# Altium schematic symbol library switching control unit.SCHLIB: 24 symbols
Pins are listed as number, name and electrical type; pins without a type are passive.

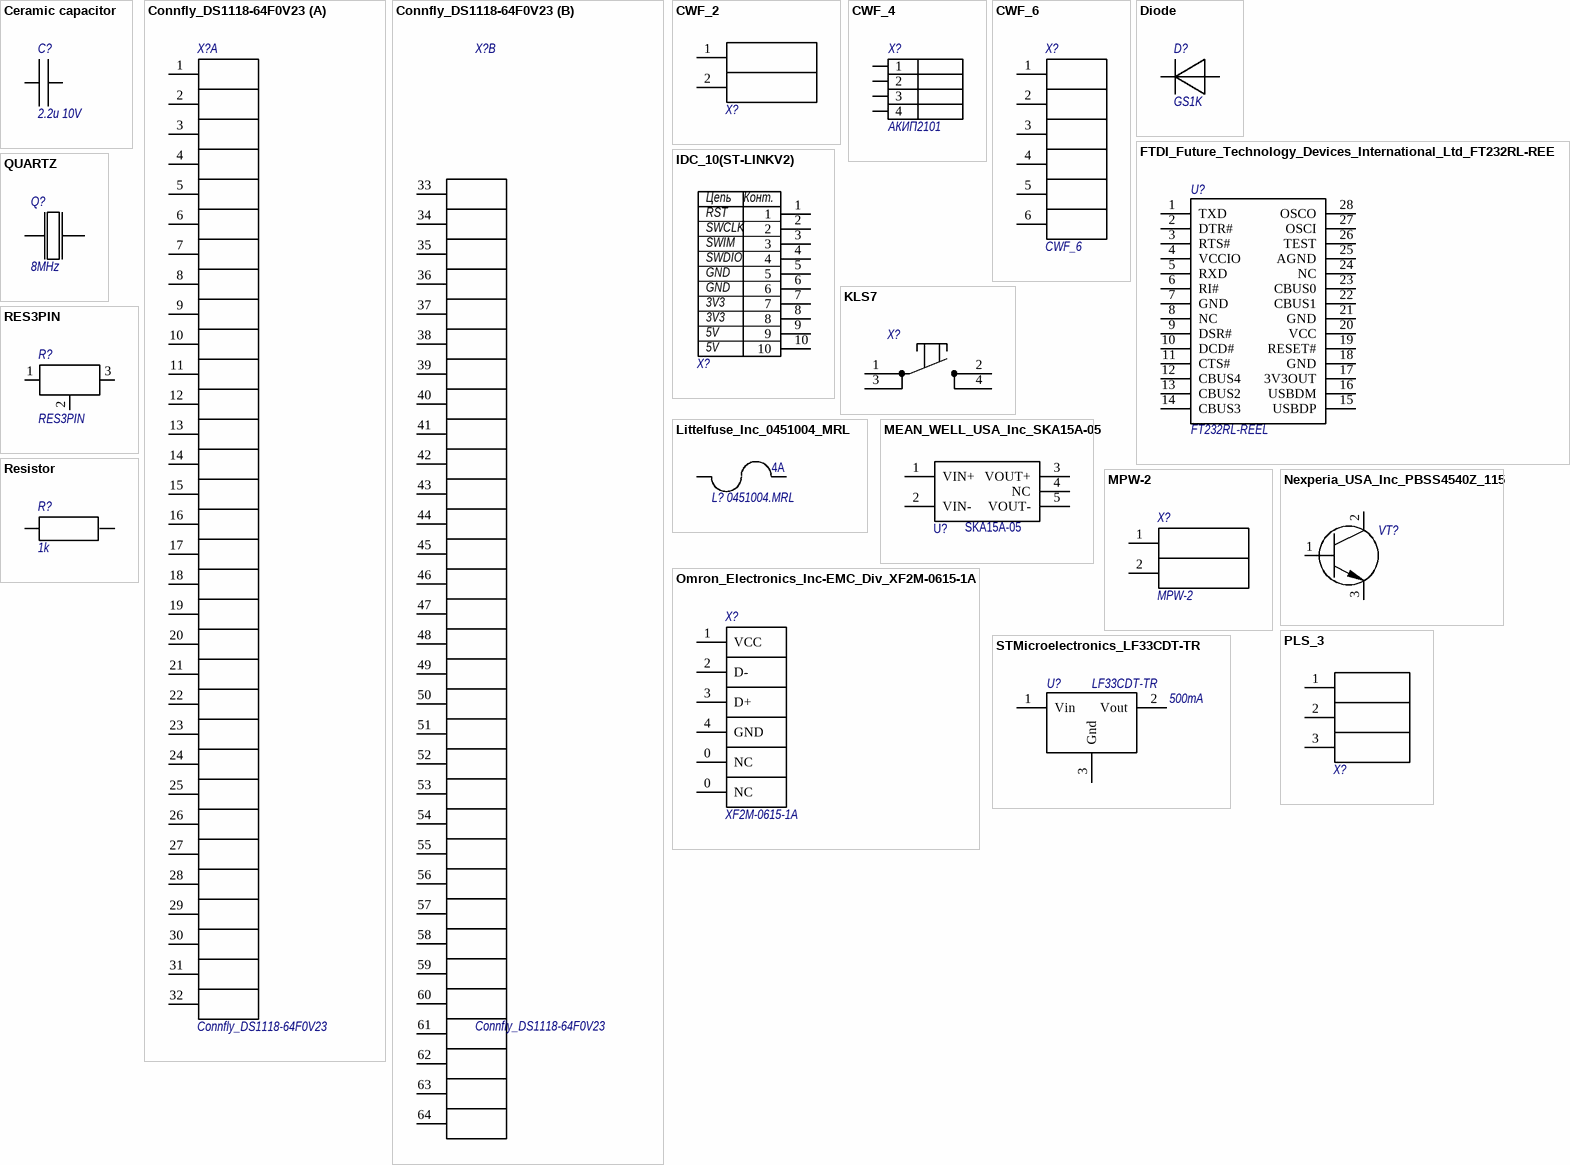
[diagram p0: symbols Ceramic capacitor to STMicroelectronics_LF33CDT-TR]

## Ceramic capacitor
designator C?, comment 2.2u 10V
CAP CER 2.2UF 10V X7R 0805; Part Number: CL21B225KPFNNNE; Manufacturer: Samsung Electro-Mechanics; Identifier: Samsung_Electro-Mechanics_CL21B225KPFNNNE; Tolerance: В±10%; Supplier 1: Digi-key; Supplier Part Number 1: 1276-1188-1-ND; Supplier 2: ChipDip; Supplier Part Number 2: 8884939575; Supplier 3: Terraelectronica; Supplier Part Number 3: 863558; Supplier Link: https://www.terraelectronica.ru/product/863558; Supplier 4: Platan; Supplier 5: Mouser; Supplier 6: Farnell; Supplier 7: Brownbear; Supplier 8: Aliexpress; ComponentLink1Description: Datasheet; ComponentLink1URL: http://www.samsungsem.com/kr/support/product-search/mlcc/__icsFiles/afieldfile/2018/07/24/CL21B225KPFNNNE.pdf; HelpURL: http://www.samsungsem.com/kr/support/product-search/mlcc/__icsFiles/afieldfile/2018/07/24/CL21B225KPFNNNE.pdf; Capacitance: 2.2u; Voltage: 10V; Temperature Coefficient: X7R; Package: 0805
footprint CAPC200X125X60L35N
pins: 1, 2

## Connfly_DS1118-64F0V23
designator X?
footprint Connfly_DS1118-64F0V23
part A pins: 1, 2, 3, 4, 5, 6, 7, 8, 9, 10, 11, 12, 13, 14, 15, 16, 17, 18, 19, 20, 21, 22, 23, 24, 25, 26, 27, 28, 29, 30, 31, 32
part B pins: 33, 34, 35, 36, 37, 38, 39, 40, 41, 42, 43, 44, 45, 46, 47, 48, 49, 50, 51, 52, 53, 54, 55, 56, 57, 58, 59, 60, 61, 62, 63, 64

## CWF_2
designator X?  (value not drawn)
CWF-2 (DS1069-2 M), Р’РёР»РєР° РЅР° РїР»Р°С‚Сѓ 2.50РјРј РїСЂСЏРјР°СЏ Р·Р°РєСЂС‹С‚Р°СЏ; Part Number: DS1069-2MVW6X; Manufacturer: Connfly; Number of Contacts: 2; Pitch: 2.5; Numbers of Rows: 1; Identifier: CWF_2; Supplier 1: Digi-key; Supplier 2: Chipdip; Supplier Part Number 2: 526261177; Supplier 3: Terraelectronica; Supplier 4: Platan; Supplier 5: Mouser; Supplier 6: Farnell; Supplier 7: Brownbear; Supplier 8: Aliexpress; ComponentLink1Description: Datasheet; ComponentLink1URL: https://static.chipdip.ru/lib/413/DOC001413777.pdf; HelpURL: https://static.chipdip.ru/lib/413/DOC001413777.pdf`
footprint CWF_2
pins: 1 VIN, 2 GND

## CWF_4
designator X?, comment АКИП2101
CWF-4 (DS1069-4 M), Р’РёР»РєР° РЅР° РїР»Р°С‚Сѓ 2.50РјРј РїСЂСЏРјР°СЏ Р·Р°РєСЂС‹С‚Р°СЏ; Part Number: DS1069-4MVW6X; Manufacturer: Connfly; Identifier: CWF_4; Number of Contacts: 4; Pitch: 2.5; Numbers of Rows: 1; Supplier 1: Digi-key; Supplier 2: Chipdip; Supplier Part Number 2: 33929; Supplier 3: Terraelectronica; Supplier Link: https://www.chipdip.ru/product/cwf-4; Supplier 4: Platan; Supplier 5: Mouser; Supplier 6: Farnell; Supplier 7: Brownbear; Supplier 8: Aliexpress; ComponentLink1Description: Datasheet; ComponentLink1URL: https://static.chipdip.ru/lib/413/DOC001413777.pdf; HelpURL: https://static.chipdip.ru/lib/413/DOC001413777.pdf`
footprint CWF_4
pins: 1, 2, 3, 4

## CWF_6
designator X?
CWF-6 (DS1069-6 M), Р’РёР»РєР° РЅР° РїР»Р°С‚Сѓ 2.50РјРј РїСЂСЏРјР°СЏ Р·Р°РєСЂС‹С‚Р°СЏ; Part Number: DS1069-6MVW6X; Manufacturer: Connfly; Number of Contacts: 6; Pitch: 2.5; Numbers of Rows: 1; Identifier: CWF_6; Supplier 1: Digi-key; Supplier 2: Chipdip; Supplier Part Number 2: 43794; Supplier 3: Terraelectronica; Supplier 4: Platan; Supplier 5: Mouser; Supplier 6: Farnell; Supplier 7: Brownbear; Supplier 8: Aliexpress; ComponentLink1Description: Datasheet; ComponentLink1URL: https://static.chipdip.ru/lib/276/DOC000276438.pdf; HelpURL: https://static.chipdip.ru/lib/276/DOC000276438.pdf
footprint CWF_6
pins: 1, 2, 3, 4, 5, 6

## Diode
designator D?, comment GS1K
GS1K, Р”РёРѕРґ 1Рђ 800Р’ [DO-214AC / SMA]; Manufacturer: Yangzhou Yangjie Electronic Technology Co., Ltd.; Identifier: Yangzhou_Yangjie_Electronic_Technology_Co_Ltd_GS1K; Voltage DC reverse: 800V; Current: 1A; Part Number: GS1K; Supplier 1: Digi-key; Supplier 2: Chipdip; Supplier Part Number 2: 9000260692; Supplier 3: Terraelectronica; Supplier Link: https://www.chipdip.ru/product/gs1k; Supplier 4: Platan; Supplier 5: Mouser; Supplier 6: Farnell; Supplier 7: Brownbear; Supplier 8: Aliexpress; ComponentLink1Description: Datasheet; ComponentLink1URL: https://static.chipdip.ru/lib/152/DOC001152778.pdf; HelpURL: https://static.chipdip.ru/lib/152/DOC001152778.pdf; Package: DO-214AC
footprint Yangzhou_Yangjie_Electronic_Technology_Co_Ltd_GS1K
pins: 1 A, 2 K

## FTDI_Future_Technology_Devices_International_Ltd_FT232RL-REEL
designator U?, comment FT232RL-REEL
IC USB FS SERIAL UART 28-SSOP; Manufacturer: FTDI, Future Technology Devices International Ltd; Identifier: FTDI_Future_Technology_Devices_International_Ltd_FT232RL-REEL; Voltage - Supply: 3.3V ~ 5.25V; Part Number: FT232RL-REEL; Supplier 1: Digi-key; Supplier Part Number 1: 768-1007-1-ND; Supplier 2: ChipDip; Supplier Part Number 2: 201330607; Supplier 3: Terraelectronica; Supplier Part Number 3: 195521; Supplier Link: https://www.chipdip.ru/product/ft232rl; Supplier 4: Platan; Supplier 5: Mouser; Supplier 6: Farnell; Supplier 7: Brownbear; Supplier 8: Aliexpress; ComponentLink1Description: Datasheet; ComponentLink1URL: https://www.ftdichip.com/Support/Documents/DataSheets/ICs/DS_FT232R.pdf; HelpURL: https://www.ftdichip.com/Support/Documents/DataSheets/ICs/DS_FT232R.pdf; Protocol: USB; Interface: UART; Package: 28-SSOP
footprint SOP28P65_1027X777X200L75X30N
pins: 1 TXD, 2 DTR#, 3 RTS#, 4 VCCIO, 5 RXD, 6 RI#, 7 GND, 8 NC, 9 DSR#, 10 DCD#, 11 CTS#, 12 CBUS4, 13 CBUS2, 14 CBUS3, 15 USBDP, 16 USBDM, 17 3V3OUT, 18 GND, 19 RESET#, 20 VCC, 21 GND, 22 CBUS1, 23 CBUS0, 24 NC, 25 AGND, 26 TEST, 27 OSCI, 28 OSCO

## IDC_10(ST-LINKV2)
designator X?, comment STM32  (value not drawn)  (no BOM)
BH-10 (DS1013-10S) (IDC-10MS), Р’РёР»РєР° РЅР° РїР»Р°С‚Сѓ РїСЂСЏРјР°СЏ 10 РєРѕРЅС‚. 2.54РјРј; Part Number: DS1013-10SSiB1-B-0; Manufacturer: Connfly; Identifier: IDC_10(NI4130); Number of Contacts: 10; Pitch: 2.54; Numbers of Rows: 2; Supplier 1: Digi-key; Supplier 2: Chipdip; Supplier Part Number 2: 62904; Supplier 3: Terraelectronica; Supplier 4: Platan; Supplier 5: Mouser; Supplier 6: Farnell; Supplier 7: Brownbear; Supplier 8: Aliexpress; ComponentLink1Description: Datasheet; ComponentLink1URL: https://static.chipdip.ru/lib/463/DOC002463525.pdf; HelpURL: https://static.chipdip.ru/lib/463/DOC002463525.pdf
footprint IDC_10
pins: 1, 2, 3, 4, 5, 6, 7, 8, 9, 10
text: Цепь; Конт.; RST; SWCLK; SWIM; SWDIO; GND; 3V3; 5V

## KLS7
designator X?, comment KLS7 h=5mm  (value not drawn)
KLS7-TS6601-5.0-180, РљРЅРѕРїРєР° С‚Р°РєС‚РѕРІР°СЏ h=5РјРј; Part Number: L-KLS7-TS6601-5.0-180; Manufacturer: KLS; Identifier: KLS_L-KLS7-TS6601-5.0-180; Contact Rating @ Voltage: 0.05A @ 12VDC; Supplier 1: Digi-key; Supplier 2: Chipdip; Supplier Part Number 2: 9000336831; Supplier 3: Terraelectronica; Supplier 4: Platan; Supplier 5: Mouser; Supplier 6: Farnell; Supplier 7: Brownbear; Supplier 8: Aliexpress; ComponentLink1Description: Datasheet; ComponentLink1URL: https://static.chipdip.ru/lib/551/DOC001551938.pdf; HelpURL: https://static.chipdip.ru/lib/551/DOC001551938.pdf
footprint KLS7
pins: 1, 2, 3, 4

## Littelfuse_Inc_0451004_MRL
designator L?, comment 0451004.MRL  Current Rating: 4A
FUSE BRD MNT 4A 125VAC/VDC 2SMD; Manufacturer: Littelfuse Inc.; Identifier: Littelfuse_Inc_0451004_MRL; Voltage Rating - AC: 125V; Part Number: 0451004.MRL; Supplier 1: Digi-Key; Supplier Part Number 1: F2586CT-ND; Supplier 2: ChipDip; Supplier Part Number 2: 8001792940; Supplier 3: Terraelectronica; Supplier Part Number 3: 703770; Supplier Link: https://www.terraelectronica.ru/product/703770; Supplier 4: Platan; Supplier 5: Mouser; Supplier 6: Farnell; Supplier 7: Brownbear; Supplier 8: Aliexpress; ComponentLink1Description: datasheet; ComponentLink1URL: https://www.littelfuse.com/~/media/electronics/datasheets/fuses/littelfuse_fuse_451_453_datasheet.pdf.pdf; HelpURL: https://www.littelfuse.com/~/media/electronics/datasheets/fuses/littelfuse_fuse_451_453_datasheet.pdf.pdf; Voltage Rating - DC: 125V; Package: 2-SMD, Square End Block
footprint FUSC610X269X294L145N
pins: 1, 2

## MEAN_WELL_USA_Inc_SKA15A-05
designator U?, comment SKA15A-05
DC DC CONVERTER 5V 15W; Manufacturer: MEAN WELL USA Inc.; Identifier: MEAN_WELL_USA_Inc_SKA15A-05; Voltage - Input (Min): 9V; Voltage - Input (Max): 18V; Current - Output (Max): 3A; Part Number: SKA15A-05; Supplier 1: Digi-Key; Supplier Part Number 1: 1866-4556-ND; Supplier 2: ChipDip; Supplier Part Number 2: 8002435774; Supplier 3: Terraelectronica; Supplier Part Number 3: 66169; Supplier Link: https://www.terraelectronica.ru/product/66169; Supplier 4: Platan; Supplier 5: Mouser; Supplier 6: Farnell; Supplier 7: Brownbear; Supplier 8: Aliexpress; ComponentLink1Description: Datasheet; ComponentLink1URL: https://www.terraelectronica.ru/pdf/show?pdf_file=%252Fds%252Fpdf%252FS%252FSKA15ABC_MW.pdf; HelpURL: https://www.terraelectronica.ru/pdf/show?pdf_file=%252Fds%252Fpdf%252FS%252FSKA15ABC_MW.pdf; Voltage - Output 1: 5V
footprint MEAN_WELL_USA_Inc_SKA15A-05
pins: 1 VIN+, 2 VIN-, 3 VOUT+, 4 NC, 5 VOUT-

## MPW-2
designator X?
footprint Connfly_DS1074-2MVT6
pins: 1 VIN, 2 GND

## Nexperia_USA_Inc_PBSS4540Z_115
designator VT?  (value not drawn)
footprint Nexperia_USA_Inc_PBSS4540Z_115 (Small Outline Transistor (SOT223), 2.30 mm pitch; 4 pin, 6.50 mm L X 3.50 mm W X 1.80 mm H body)
pins: 1 B, 2 C, 3 E

## Omron_Electronics_Inc-EMC_Div_XF2M-0615-1A
designator X?, comment XF2M-0615-1A
CONN FPC 6POS 0.50MM R/A; Manufacturer: Omron Electronics Inc-EMC Div; Identifier: Omron_Electronics_Inc-EMC_Div_XF2M-0615-1A; Number of contacts: 6; Current: 0.5A; Part Number: XF2M-0615-1A; Supplier Part Number 1: OR1110CT-ND; Supplier 2: ChipDip; Supplier Part Number 2: 8002030526; Supplier 3: Terraelectronica; Supplier Part Number 3: 1458227; Supplier Link: https://www.terraelectronica.ru/product/1458227; Supplier 4: Platan; Supplier 5: Mouser; Supplier 6: Farnell; Supplier 7: Brownbear; Supplier 8: Aliexpress; ComponentLink1Description: Datasheet; ComponentLink1URL: https://omronfs.omron.com/en_US/ecb/products/pdf/en-xf3m_xf2m.pdf; HelpURL: https://omronfs.omron.com/en_US/ecb/products/pdf/en-xf3m_xf2m.pdf; Type: FPC/FFC
footprint Omron_Electronics_Inc-EMC_Div_XF2M-0615-1A
footprint Omron_Electronics_Inc-EMC_Div_XF2M-0615-1A
pins: 0 NC, 0 NC, 1 VCC, 2 D-, 3 D+, 4 GND

## PLS_3
designator X?  (value not drawn)  (no BOM)
PLS-3 (DS1021-1x3), Р’РёР»РєР° С€С‚С‹СЂРµРІР°СЏ 2.54РјРј 1x3 РїСЂСЏРјР°СЏ С‚РёРї1; Part Number: DS1021-1*3SF11-B; Manufacturer: Connfly; Number of Contacts: 3; Pitch: 2.54; Numbers of Rows: 1; Identifier: PLS_3; Supplier 1: Digi-key; Supplier 2: Chipdip; Supplier Part Number 2: 132511368; Supplier 3: Terraelectronica; Supplier 4: Platan; Supplier 5: Mouser; Supplier 6: Farnell; Supplier 7: Brownbear; Supplier 8: Aliexpress; ComponentLink1Description: Datasheet; ComponentLink1URL: https://static.chipdip.ru/lib/274/DOC000274134.pdf; HelpURL: https://static.chipdip.ru/lib/274/DOC000274134.pdf
footprint PLS_3
pins: 1, 2, 3

## QUARTZ
designator Q?, comment 8MHz
Part Number: NX5032GA-8MHz; Manufacturer: NDK America, Inc.; Identifier: NDK_America_Inc_NX5032GA-8MHZ-EXS00A-CG07039; Desription: CRYSTAL 8MHZ 18PF SMD; Frequency: 8M; Frequency Stability: 30ppm; Frequency Tolerance: 20ppm; Load Capacitance: 18pF; Supplier 1: Digi-Key; Supplier Part Number 1: 644-1318-1-ND; Supplier 2: ChipDip; Supplier Part Number 2: 9000523954; Supplier 3: Terraelectronica; Supplier Link: https://www.chipdip.ru/product0/9000523954; Supplier 4: Platan; Supplier 5: Mouser; Supplier 6: Farnell; Supplier 7: Brownbear; Supplier 8: Aliexpress; ComponentLink1Description: datasheet; ComponentLink1URL: https://static.chipdip.ru/lib/014/DOC004014872.pdf; HelpURL: https://static.chipdip.ru/lib/014/DOC004014872.pdf; Package: SMD
footprint XTAL500X320X150D500L150X200N
pins: 1, 2

## RES3PIN
designator R?
footprint RES3PIN
pins: 1, 2, 3

## Resistor
designator R?, comment 1k
RES SMD 1K OHM 1% 1/8W 0805; Part Number: RC0805FR-071KL; Manufacturer: Yageo; Identifier: Yageo_RC0805FR-071KL; Tolerance: 1,00%; Power: 0.125W; Supplier 1: Digi-Key; Supplier Part Number 1: 311-1.00KCRCT-ND; Supplier 2: ChipDip; Supplier Part Number 2: 9000079486; Supplier 3: Terraelectronica; Supplier Part Number 3: 564131; Supplier Link: https://www.terraelectronica.ru/product/564131; Supplier 4: Platan; Supplier 5: Mouser; Supplier 6: Farnell; Supplier 7: Brownbear; Supplier 8: Aliexpress; ComponentLink1Description: Datasheet; ComponentLink1URL: http://www.yageo.com/documents/recent/PYu-RC_Group_51_RoHS_L_9.pdf; HelpURL: http://www.yageo.com/documents/recent/PYu-RC_Group_51_RoHS_L_9.pdf; Resistance: 1k; Package: 0805
footprint RESC200X125X60L35N
pins: 1, 2

## STMicroelectronics_LF33CDT-TR
designator U?, comment LF33CDT-TR  Current - Output: 500mA
IC REG LINEAR 3.3V 500MA DPAK; Manufacturer: STMicroelectronics; Identifier: STMicroelectronics_LF33CDT-TR; Voltage - Input (Max): 16V; Part Number: LF33CDT-TR; Supplier 1: Digi-Key; Supplier Part Number 1: 497-1532-1-ND; Supplier 2: ChipDip; Supplier Part Number 2: 8001586393; Supplier 3: Terraelectronica; Supplier Part Number 3: 303860; Supplier Link: https://www.terraelectronica.ru/product/303860; Supplier 4: Platan; Supplier 5: Mouser; Supplier 6: Farnell; Supplier 7: Brownbear; Supplier 8: Aliexpress; ComponentLink1Description: Datasheet; ComponentLink1URL: https://www.st.com/content/ccc/resource/technical/document/datasheet/c4/0e/7e/2a/be/bc/4c/bd/CD00000546.pdf/files/CD00000546.pdf/jcr:content/translations/en.CD00000546.pdf; HelpURL: https://www.st.com/content/ccc/resource/technical/document/datasheet/c4/0e/7e/2a/be/bc/4c/bd/CD00000546.pdf/files/CD00000546.pdf/jcr:content/translations/en.CD00000546.pdf; Voltage - Output (Min/Fixed): 3.3V; Package: DPAK
footprint DPAK3P450_972X240L125X77T510X540N
pins: 1 Vin, 2 Vout, 3 Gnd

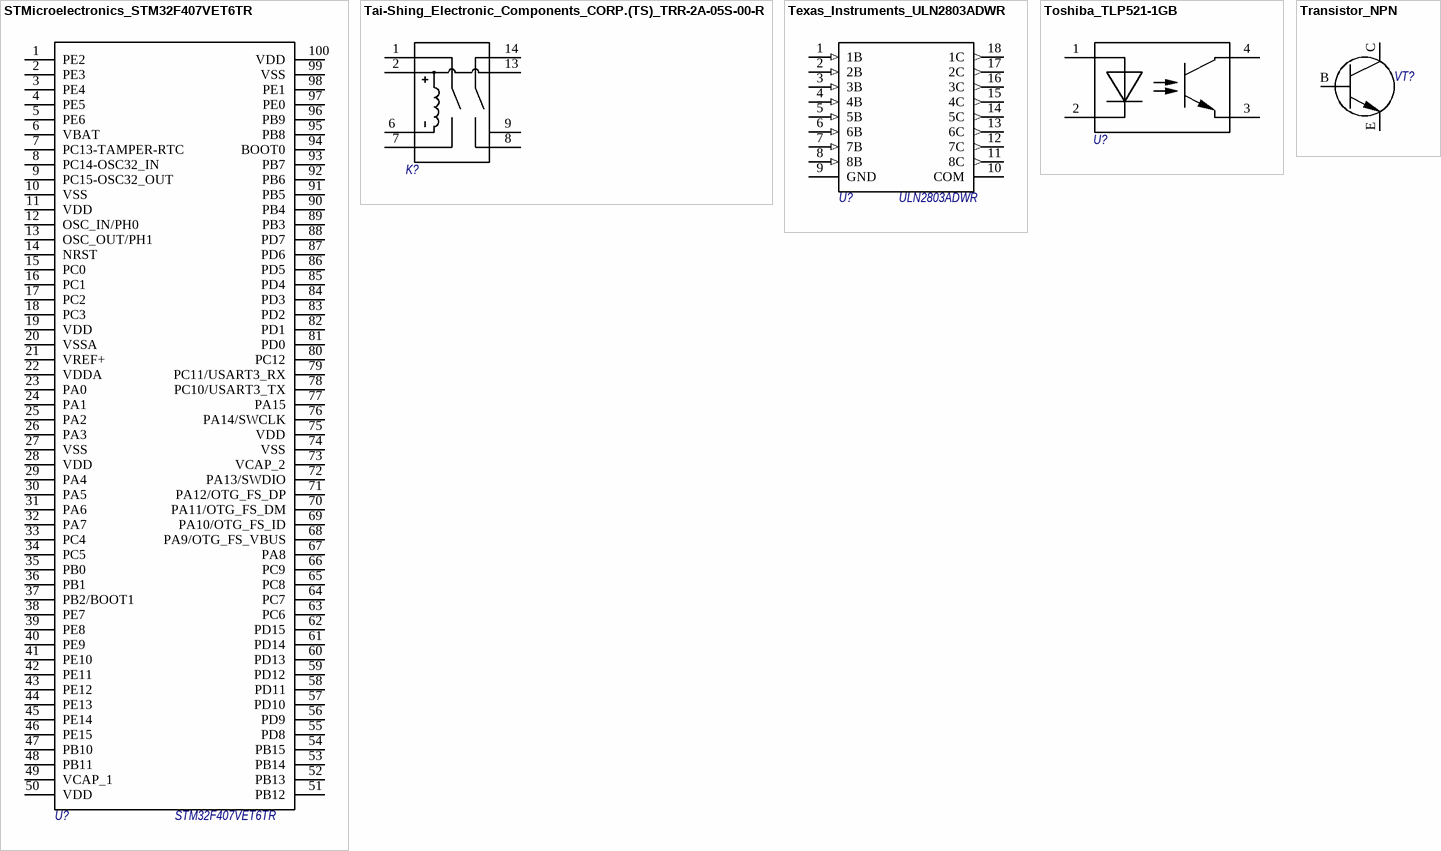
[diagram p1: symbols STMicroelectronics_STM32F407VET6TR to Transistor_NPN]

## STMicroelectronics_STM32F407VET6TR
designator U?, comment STM32F407VET6TR
IC MCU 32BIT 512KB FLASH 100LQFP; Manufacturer: STMicroelectronics; Identifier: STMicroelectronics_STM32F407VET6TR; Core Processor: ARMВ® CortexВ®-M4; Core Size: 32-Bit; Speed: 168MHz; Connectivity: CANbus, DCMI, EBI/EMI, Ethernet, IВІC, IrDA, LINbus, SPI, UART/USART, USB OTG; Part Number: STM32F407VET6TR; Supplier 1: Digi-Key; Supplier Part Number 1: 497-19657-1-ND; Supplier 2: ChipDip; Supplier Part Number 2: 9000135994; Supplier 3: Terraelectronica; Supplier Part Number 3: 855683; Supplier Link: https://www.terraelectronica.ru/product/855683; Supplier 4: Platan; Supplier 5: Mouser; Supplier 6: Farnell; Supplier 7: Brownbear; Supplier 8: Aliexpress; ComponentLink1Description: Datasheet; ComponentLink1URL: https://www.st.com/content/ccc/resource/technical/document/datasheet/ef/92/76/6d/bb/c2/4f/f7/DM00037051.pdf/files/DM00037051.pdf/jcr:content/translations/en.DM00037051.pdf; HelpURL: https://www.st.com/content/ccc/resource/technical/document/datasheet/ef/92/76/6d/bb/c2/4f/f7/DM00037051.pdf/files/DM00037051.pdf/jcr:content/translations/en.DM00037051.pdf; Package: 100-LQFP
footprint QFP100P50_1600X1600X160L60X22N
pins: 1 PE2, 2 PE3, 3 PE4, 4 PE5, 5 PE6, 6 VBAT, 7 PC13-TAMPER-RTC, 8 PC14-OSC32_IN, 9 PC15-OSC32_OUT, 10 VSS, 11 VDD, 12 OSC_IN/PH0, 13 OSC_OUT/PH1, 14 NRST, 15 PC0, 16 PC1, 17 PC2, 18 PC3, 19 VDD, 20 VSSA, 21 VREF+, 22 VDDA, 23 PA0, 24 PA1, 25 PA2, 26 PA3, 27 VSS, 28 VDD, 29 PA4, 30 PA5, 31 PA6, 32 PA7, 33 PC4, 34 PC5, 35 PB0, 36 PB1, 37 PB2/BOOT1, 38 PE7, 39 PE8, 40 PE9, 41 PE10, 42 PE11, 43 PE12, 44 PE13, 45 PE14, 46 PE15, 47 PB10, 48 PB11, 49 VCAP_1, 50 VDD, 51 PB12, 52 PB13, 53 PB14, 54 PB15, 55 PD8, 56 PD9, 57 PD10, 58 PD11, 59 PD12, 60 PD13, 61 PD14, 62 PD15, 63 PC6, 64 PC7, 65 PC8, 66 PC9, 67 PA8, 68 PA9/OTG_FS_VBUS, 69 PA10/OTG_FS_ID, 70 PA11/OTG_FS_DM, 71 PA12/OTG_FS_DP, 72 PA13/SWDIO, 73 VCAP_2, 74 VSS, 75 VDD, 76 PA14/SWCLK, 77 PA15, 78 PC10/USART3_TX, 79 PC11/USART3_RX, 80 PC12, 81 PD0, 82 PD1, 83 PD2, 84 PD3, 85 PD4, 86 PD5, 87 PD6, 88 PD7, 89 PB3, 90 PB4, 91 PB5, 92 PB6, 93 PB7, 94 BOOT0, 95 PB8, 96 PB9, 97 PE0, 98 PE1, 99 VSS, 100 VDD

## Tai-Shing_Electronic_Components_CORP.(TS)_TRR-2A-05S-00-R
designator K?, comment TRR-2A-05S-00-R  (value not drawn)
5VDC, Р РµР»Рµ 2РїРµСЂ. 5Р’ / 1A; Manufacturer: Tai-Shing Electronic Components CORP.(TS); Identifier: Tai-Shing_Electronic_Components_CORP.(TS)_TRR-2A-05S-00-R; Coil Current: 35.7mA; Switching Voltage: 100VDC Max.; Operate time: 1ms; Part Number: TRR-2A-05S-00-R; Supplier 1: Digi-Key; Supplier 2: Chipdip; Supplier Part Number 2: 8001785686; Supplier 3: Terraelectronica; Supplier Part Number 3: 290827; Supplier Link: https://www.terraelectronica.ru/product/290827; Supplier 4: Platan; Supplier 5: Mouser; Supplier 6: Farnell; Supplier 7: Brownbear; Supplier 8: Aliexpress; ComponentLink1Description: Datasheet; ComponentLink1URL: https://www.terraelectronica.ru/pdf/show?pdf_file=%252Fds%252Fpdf%252FT%252FTRR.pdf; HelpURL: https://www.terraelectronica.ru/pdf/show?pdf_file=%252Fds%252Fpdf%252FT%252FTRR.pdf; Coil Voltage: 5VDC; Contact Rating (Current): 1A; Release time: 1ms
footprint Tai-Shing_Electronic_Components_CORP.(TS)_TRR-2A-05S-00-R
pins: 1, 2, 6, 7, 8, 9, 13, 14

## Texas_Instruments_ULN2803ADWR
designator U?, comment ULN2803ADWR
TRANS 8NPN DARL 50V 0.5A 18SO; Manufacturer: Texas Instruments; Identifier: Texas_Instruments_ULN2803ADWR; Ic max: 500mA; Part Number: ULN2803ADWR; Supplier 1: Digi-Key; Supplier Part Number 1: 296-15777-1-ND; Supplier 2: Chipdip; Supplier Part Number 2: 9000342414; Supplier 3: Terraelectronica; Supplier Part Number 3: 144905; Supplier Link: https://www.chipdip.ru/product/uln2803adw; Supplier 4: Platan; Supplier 5: Mouser; Supplier 6: Farnell; Supplier 7: Brownbear; Supplier 8: Aliexpress; ComponentLink1Description: Datasheet; ComponentLink1URL: http://www.ti.com/general/docs/suppproductinfo.tsp?distId=10&gotoUrl=http%3A%2F%2Fwww.ti.com%2Flit%2Fgpn%2Fuln2803a; HelpURL: http://www.ti.com/general/docs/suppproductinfo.tsp?distId=10&gotoUrl=http%3A%2F%2Fwww.ti.com%2Flit%2Fgpn%2Fuln2803a; Voltage (CE): 50V; hFE: -; Type: 8 NPN Darlington; Package: 18-SOIC
footprint SOIC18P127_1155X1030X265L83X41N
pins: 1 1B (in), 2 2B (in), 3 3B (in), 4 4B (in), 5 5B (in), 6 6B (in), 7 7B (in), 8 8B (in), 9 GND, 10 COM, 11 8C (out), 12 7C (out), 13 6C (out), 14 5C (out), 15 4C (out), 16 3C (out), 17 2C (out), 18 1C (out)

## Toshiba_TLP521-1GB
designator U?, comment TLP521-1GB  (value not drawn)
Manufacturer: Toshiba; Identifier: Toshiba_TLP521-1GB; Desription: TLP521-1GB, РћРїС‚Рѕ С‚СЂР°РЅР·РёСЃС‚РѕСЂ, 2.5РєР’, 55Р’, 0.05Рђ РљСѓСЃ=50...600% NBC [DIP-4]; Voltage - Output (Max): 55V; Output Type: Transistor; Part Number: TLP521-1GB; Supplier 1: Digi-key; Supplier 2: ChipDip; Supplier Part Number 2: 26829; Supplier 3: Terraelectronica; Supplier Link: https://www.chipdip.ru/product/tlp521-1gb; Supplier 4: Platan; Supplier 5: Mouser; Supplier 6: Farnell; Supplier 7: Brownbear; Supplier 8: Aliexpress; ComponentLink1Description: Link; ComponentLink1URL: https://static.chipdip.ru/lib/043/DOC000043568.pdf; HelpURL: https://static.chipdip.ru/lib/043/DOC000043568.pdf
footprint DIP832W50P254L485H425Q4
pins: 1, 2, 3, 4

## Transistor_NPN
designator VT?, comment BC817-16,215  (value not drawn)
TRANS NPN 45V 0.5A SOT23; Manufacturer: Nexperia USA Inc.; Identifier: Nexperia_USA_Inc_BC817-16_215; Ic max: 500mA; hFE: 100 @ 100mA 1V; Part Number: BC817-16,215; Supplier 1: Digi-Key; Supplier Part Number 1: 1727-4238-1-ND; Supplier 2: Chipdip; Supplier Part Number 2: 248653261; Supplier 3: Terraelectronica; Supplier Part Number 3: 248145; Supplier Link: https://www.terraelectronica.ru/product/248145; Supplier 4: Platan; Supplier 5: Mouser; Supplier 6: Farnell; Supplier 7: Brownbear; Supplier 8: Aliexpress; ComponentLink1Description: Datasheet; ComponentLink1URL: https://assets.nexperia.com/documents/data-sheet/BC817_SER.pdf; HelpURL: https://assets.nexperia.com/documents/data-sheet/BC817_SER.pdf; Voltage (CE): 45V; Type: npn; Package: SOT-23
footprint SOT23-3P95_240X100L25X42N_(B=2_E=1_C=3)
pins: B, C, E